# EAGLE library part PIC24FVXXKA302 (library pic24kakl)
PIC24FVXXKA302 2.0-5.5V 28 pin
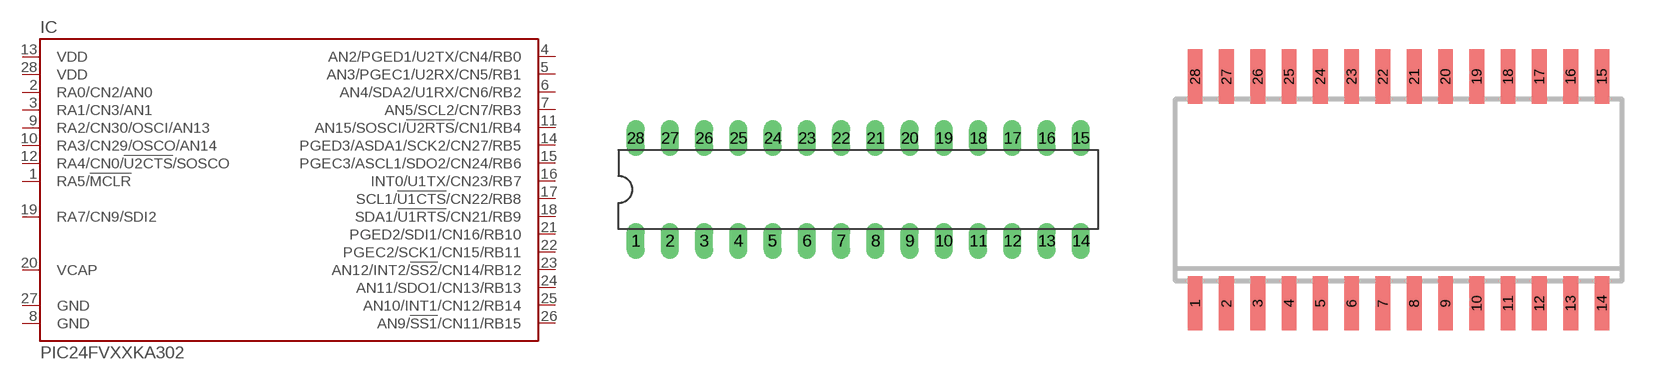
[diagram p1: symbol with the pads of DIL28-3; footprints DIL28-3, SO28W]

Designator prefix IC

## PIC24FVXXKA302-SP  [DIL28-3]
1  RA5/!MCLR
2  RA0/CN2/AN0
3  RA1/CN3/AN1
4  AN2/PGED1/U2TX/CN4/RB0
5  AN3/PGEC1/U2RX/CN5/RB1
6  AN4/SDA2/U1RX/CN6/RB2
7  AN5/SCL2/CN7/RB3
8  GND  pwr
9  RA2/CN30/OSCI/AN13
10  RA3/CN29/OSCO/AN14
11  AN15/SOSCI/!U2RTS!/CN1/RB4
12  RA4/CN0/!U2CTS!/SOSCO
13  VDD  pwr
14  PGED3/ASDA1/SCK2/CN27/RB5
15  PGEC3/ASCL1/SDO2/CN24/RB6
16  INT0/U1TX/CN23/RB7
17  SCL1/!U1CTS!/CN22/RB8
18  SDA1/!U1RTS!/CN21/RB9
19  RA7/CN9/SDI2
20  VCAP  pas
21  PGED2/SDI1/CN16/RB10
22  PGEC2/SCK1/CN15/RB11
23  AN12/INT2/!SS2!/CN14/RB12
24  AN11/SDO1/CN13/RB13
25  AN10/INT1/CN12/RB14
26  AN9/!SS1!/CN11/RB15
27  GND  pwr
28  VDD  pwr

## PIC24FVXXKA302-SO  [SO28W]
Pads as for DIL28-3

## PIC24FVXXKA302-SS  [SSOP28]
Pads as for DIL28-3

## Footprint DIL28-3 (pad centres in mm)
Dual In Line Package Small
drill 0.813 long: 1 -16.51,-3.81; 2 -13.97,-3.81; 3 -11.43,-3.81; 4 -8.89,-3.81; 5 -6.35,-3.81; 6 -3.81,-3.81; 7 -1.27,-3.81; 8 1.27,-3.81; 9 3.81,-3.81; 10 6.35,-3.81; 11 8.89,-3.81; 12 11.43,-3.81; 13 13.97,-3.81; 14 16.51,-3.81; 15 16.51,3.81; 16 13.97,3.81; 17 11.43,3.81; 18 8.89,3.81; 19 6.35,3.81; 20 3.81,3.81; 21 1.27,3.81; 22 -1.27,3.81; 23 -3.81,3.81; 24 -6.35,3.81; 25 -8.89,3.81; 26 -11.43,3.81; 27 -13.97,3.81; 28 -16.51,3.81

## Footprint SO28W (pad centres in mm)
SMALL OUTLINE INTEGRATED CIRCUIT wide body 7.5 mm/JEDEC MO-119AB
smd 0.6 x 2.2: 1 -8.255,-4.6; 2 -6.985,-4.6; 3 -5.715,-4.6; 4 -4.445,-4.6; 5 -3.175,-4.6; 6 -1.905,-4.6; 7 -0.635,-4.6; 8 0.635,-4.6; 9 1.905,-4.6; 10 3.175,-4.6; 11 4.445,-4.6; 12 5.715,-4.6; 13 6.985,-4.6; 14 8.255,-4.6; 15 8.255,4.6; 16 6.985,4.6; 17 5.715,4.6; 18 4.445,4.6; 19 3.175,4.6; 20 1.905,4.6; 21 0.635,4.6; 22 -0.635,4.6; 23 -1.905,4.6; 24 -3.175,4.6; 25 -4.445,4.6; 26 -5.715,4.6; 27 -6.985,4.6; 28 -8.255,4.6

## Footprint SSOP28 (pad centres in mm)
Shrink Small Outline Package package type SS
smd 0.4 x 1.5: 1 -4.225,-3.625; 2 -3.575,-3.625; 3 -2.925,-3.625; 4 -2.275,-3.625; 5 -1.625,-3.625; 6 -0.975,-3.625; 7 -0.325,-3.625; 8 0.325,-3.625; 9 0.975,-3.625; 10 1.625,-3.625; 11 2.275,-3.625; 12 2.925,-3.625; 13 3.575,-3.625; 14 4.225,-3.625; 15 4.225,3.625; 16 3.575,3.625; 17 2.925,3.625; 18 2.275,3.625; 19 1.625,3.625; 20 0.975,3.625; 21 0.325,3.625; 22 -0.325,3.625; 23 -0.975,3.625; 24 -1.625,3.625; 25 -2.275,3.625; 26 -2.925,3.625; 27 -3.575,3.625; 28 -4.225,3.625